# EAGLE library part CA3080 (library transducers)
OTA
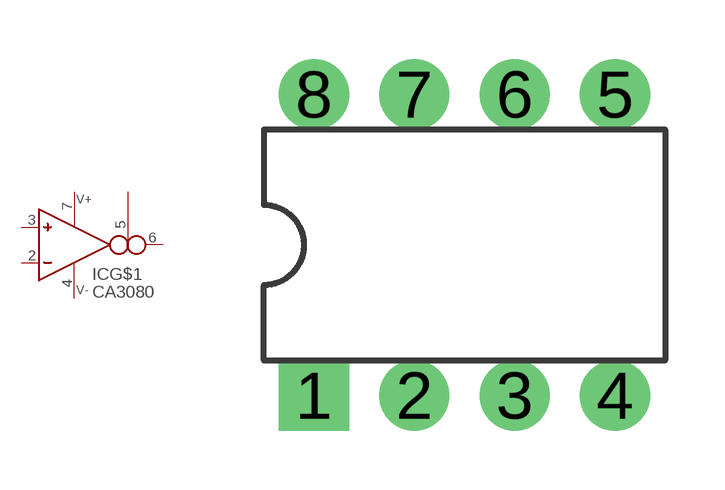
[diagram p0: symbol with the pads of DIL08; footprint DIL08]

Designator prefix IC; gates G$1=OTA_BASIC G$2=OTA_SUPPLY

## CA3080E  [DIL08]
2  G$1:IN_N  in
3  G$1:IN_P  in
4  G$2:V-  sup
5  G$1:I_BIAS  in
6  G$1:OUT  out
7  G$2:V+  sup

## Footprint DIL08 (pad centres in mm)
Dual In Line Package
drill 1.016 pad 1.778 square: 1 -3.81,-3.81
drill 1.016 pad 1.778: 2 -1.27,-3.81; 3 1.27,-3.81; 4 3.81,-3.81; 5 3.81,3.81; 6 1.27,3.81; 7 -1.27,3.81; 8 -3.81,3.81